# Altium integrated library SENSIRION_ENVIRONMENTAL_SENSORS.IntLib: 3 symbols
Pins are listed as number, name and electrical type; pins without a type are passive.

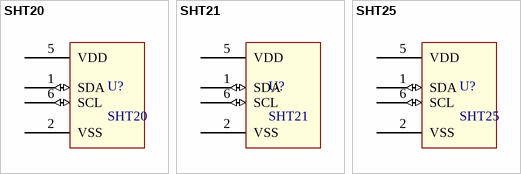
[diagram p0: symbols SHT20 to SHT25]

## SHT20
designator U?
Humidity and Temperature Sensor IC; ComponentLink1Description: Datasheet; ComponentLink1URL: https://www.sensirion.com/fileadmin/user_upload/customers/sensirion/Dokumente/0_Datasheets/Humidity/Sensirion_Humidity_Sensors_SHT20_Datasheet.pdf
footprint Sensirion_SHT2X_3X3P1_6
pins: 1 SDA (io) "Serial Data, bidirectional", 2 VSS (power) "Ground", 5 VDD (power) "Supply Voltage", 6 SCL (io) "Serial Clock, bidirectional"

## SHT21
designator U?
Humidity and Temperature Sensor IC; ComponentLink1Description: Datasheet; ComponentLink1URL: https://www.sensirion.com/fileadmin/user_upload/customers/sensirion/Dokumente/0_Datasheets/Humidity/Sensirion_Humidity_Sensors_SHT21_Datasheet.pdf
footprint Sensirion_SHT2X_3X3P1_6
pins: 1 SDA (io) "Serial Data, bidirectional", 2 VSS (power) "Ground", 3 NC hidden "Not Connected", 4 NC hidden "Not Connected", 5 VDD (power) "Supply Voltage", 6 SCL (io) "Serial Clock, bidirectional", 7 PAD hidden "Die pad (centre pad) may be left floating or be connected to ground"

## SHT25
designator U?
Humidity and Temperature Sensor IC; ComponentLink1Description: Datasheet; ComponentLink1URL: https://www.sensirion.com/fileadmin/user_upload/customers/sensirion/Dokumente/0_Datasheets/Humidity/Sensirion_Humidity_Sensors_SHT25_Datasheet.pdf
footprint Sensirion_SHT2X_3X3P1_6
pins: 1 SDA (io) "Serial Data, bidirectional", 2 VSS (power) "Ground", 5 VDD (power) "Supply Voltage", 6 SCL (io) "Serial Clock, bidirectional"